# Altium schematic symbol library IPI029N06N.SchLib: 1 symbol
Pins are listed as number, name and electrical type; pins without a type are passive.

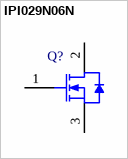
[diagram p0: symbol IPI029N06N]

## IPI029N06N
designator Q?
N-Channel OptiMOS Power-Transistor, 60 V VDS, 100 A ID, -55 to 175 degC, PG-TO262-3-1, Tube, Green; Manufacturer: Infineon; PartNumber: IPI029N06N; Green: TRUE; ID (max): 100 A; IDpuls (max): 400 A; Polarity: N; Ptot (max): 136 W; QG: 56 nC; RDS (on) (max): 2.9 mOhm; Rth: 1.1 K/W; RthJA (max): 62 K/W; VDS (max): 60 V; VGS(th) (max): 3.3 V; VGS(th) (min): 2.1 V; DatasheetVersion: Rev. 2.2; PackageVersion: Rev. 03, 05/2006; PackageReference: PG-TO262-3-1; PackageDescription: 3-Pin Plastic (Green) Transistor Single Outline Package, 10.03 x 8.98 mm Body, 2.54 mm Pitch; Supplier 1: Digi-Key; Supplier Part Number 1: IPI029N06N-ND; Supplier 2: Mouser; Supplier Part Number 2: N/A; Halogen-free: TRUE; Packing: Tube; RthJC (max): 1.1 K/W; Mounting Technology: Through Hole; ComponentLink1Description: Manufacturer URL; ComponentLink1URL: http://www.infineon.com/; ComponentLink2Description: Datasheet; ComponentLink2URL: http://www.infineon.com/dgdl/IPI029N06N_Rev2.2.pdf?folderId=db3a304313b8b5a60113cee8763b02d7&fileId=db3a30433727a44301372bab38f54926; ComponentLink3Description: Package Specification; ComponentLink3URL: http://www.infineon.com/dgdl/DS_IPX65R420CFD_2_4.pdf?folderId=db3a3043156fd5730115c736bcc70ff2&fileId=db3a30432f91014f012f9c293f1a7399
footprint INF-PG-TO262-3-1_A (FM, 3-Leads, Body 10.03x4.436mm, Pitch 2.54mm)
pins: 1 GATE, 2 DRAIN, 3 SOURCE